# EAGLE library part 01STANDARD_ETD34_THT_H_14PIN (library Wurth Electronics Midcom Inc V1-0)
Package Style: Standard ETD34 Mounting: THT Pins: 14 pins Bobbin: 070-5455 Best pinouts for production vary per application. Please contact Wurth Electronics Midcom, Inc. for assistance with your custom design. Website: Wurth Electronics Midcom <http://www.we-online.com/midcom> Contact us Wurth Electronics Midcom, Inc. 121 Airport Dr. Watertown, SD 57201 Phone: (605) 886-4385 Fax: (605) 886-4486 E-Mail: midcom@we-online.com
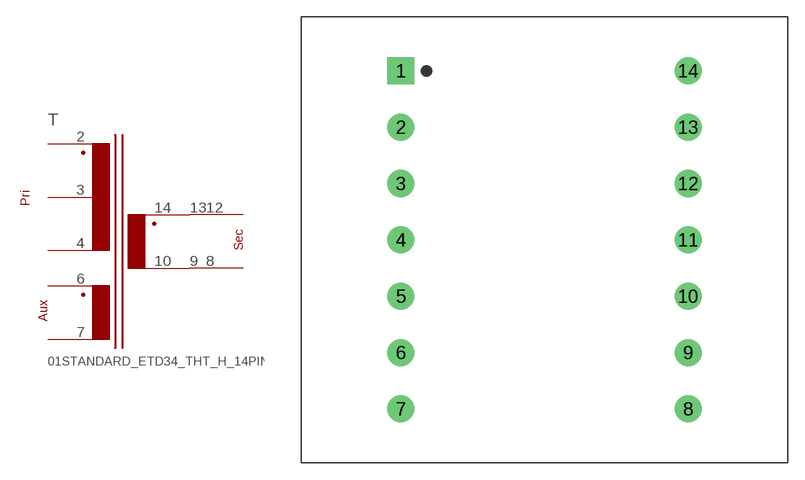
[diagram p132: symbol with the pads of 01STANDARD_ETD34_THT_H_14PIN; footprint 01STANDARD_ETD34_THT_H_14PIN]

Designator prefix T

## 01STANDARD_ETD34_THT_H_14PIN  [01STANDARD_ETD34_THT_H_14PIN]
2  1  pas
3  2  pas
4  3  pas
6  4  pas
7  5  pas
8  11  pas
9  9  pas
10  7  pas
12  10  pas
13  8  pas
14  6  pas

## Footprint 01STANDARD_ETD34_THT_H_14PIN (pad centres in mm)
Package Style: Speedy ETD34 Mounting: THT Pins: 14 pins Bobbin: 070-5455
drill 1.6 square: 1 -12.751,15.011
drill 1.6 round: 2 -12.751,10.008; 3 -12.751,5.004; 4 -12.751,0; 5 -12.751,-5.004; 6 -12.751,-10.008; 7 -12.751,-15.011; 8 12.751,-15.011; 9 12.751,-10.008; 10 12.751,-5.004; 11 12.751,0; 12 12.751,5.004; 13 12.751,10.008; 14 12.751,15.011